# Altium schematic symbol library IR21844S.SchLib: 1 symbol
Pins are listed as number, name and electrical type; pins without a type are passive.

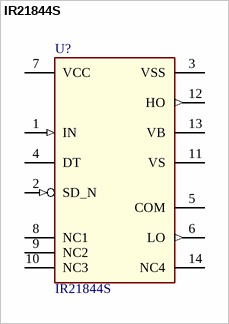
[diagram p0: symbol IR21844S]

## IR21844S
designator U?
Half-bridge gate driver with integrated bootstrap diode; Alternate View: No; Symbol Type: Half-bridge gate driver with integrated bootstrap diode; Multiple Parts: No
pins: 1 IN (in) "Logic inputs for high and low side gate driver output", 2 SD_N (in) "Logic input for shutdown", 3 VSS (power) "Logic ground", 4 DT (power) "Programmable dead-time, referenced to VSS", 5 COM (power) "Low-side gate drive return", 6 LO (out) "Low-side driver output", 7 VCC (power) "Low-side and logic supply voltage", 8 NC1, 9 NC2, 10 NC3, 11 VS (power) "High voltage floating supply return", 12 HO (out) "High-side driver output", 13 VB (power) "High-side gate drive floating supply", 14 NC4